# Altium footprint library 395111008.PcbLib: 1 footprints
Each footprint in its own frame and in the unit in brackets; x right, y up, seen from the top. Pads: shape width x height; smd on the part's side, far side on the other; paste and mask are expansions set on the pad; w line width, h text height; cw(c..) or ccw(c..) is an arc to the next point about the centre after c.
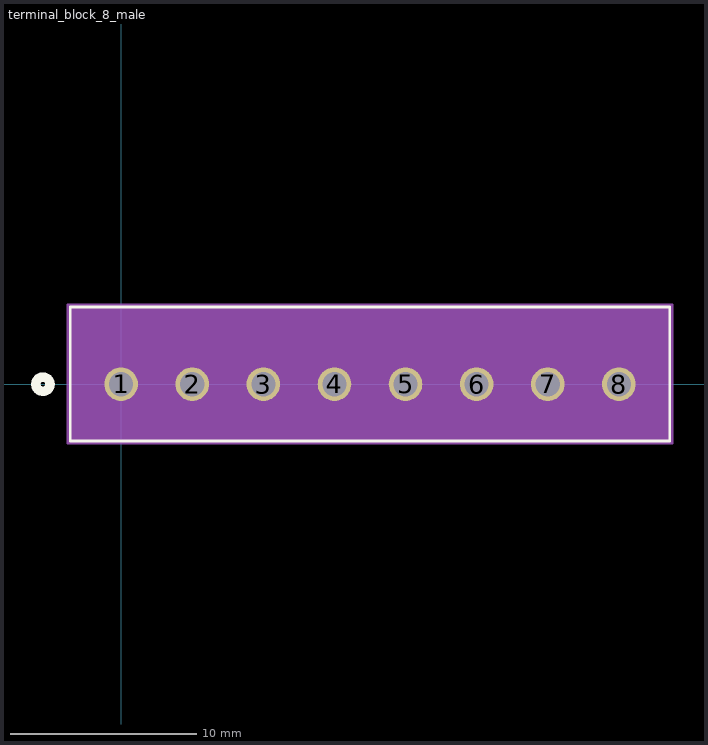
[diagram p0: the footprint, top view; thin cyan lines are the x and y axes]

## terminal_block_8_male [mil]
pads (8):
  round 71 / inner round 60 / far side round 71 hole 51 paste-35.5 mask+0: 1(0,0) 2(150,0) 3(300,0) 4(450,0) 5(600,0) 6(750,0) 7(900,0) 8(1050,0)
Top Overlay:
  circle w20: c-165,0 r15
  lines w6: -107.5,-119.52 -107.5,162.48 1157.5,162.48 1157.5,-119.52 -107.5,-119.52
Bottom Overlay:
  circle w20: c-165,0 r15
Mechanical 13:
  lines w1: -102.5,-114.52 -102.5,157.48 1152.5,157.48 1152.5,-114.52 -102.5,-114.52
Mechanical 15:
  region: 1162.5,167.48 -112.5,167.48 -112.5,-124.52 1162.5,-124.52
  lines w6: -112.5,-124.52 1162.5,-124.52 1162.5,167.48 -112.5,167.48 -112.5,-124.52
3D body "395111008.stp": height 360, standoff -140, extent -102.5,-110 1152.5,160